# Altium schematic symbol library 2SA2092.Schlib: 1 symbol
Pins are listed as number, name and electrical type; pins without a type are passive.

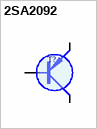
[diagram p0: symbol 2SA2092]

## 2SA2092
designator T?
SOT23     60V  1A        300MHz  15p (2SC5865)
pins: 1 B, 2 E (oe), 3 C (oc)
1 alternate drawing of the same symbol